# Altium footprint library SnapEDApcb.PcbLib: 1 footprints
Each footprint in its own frame and in the unit in brackets; x right, y up, seen from the top. Pads: shape width x height; smd on the part's side, far side on the other; paste and mask are expansions set on the pad; w line width, h text height; cw(c..) or ccw(c..) is an arc to the next point about the centre after c.
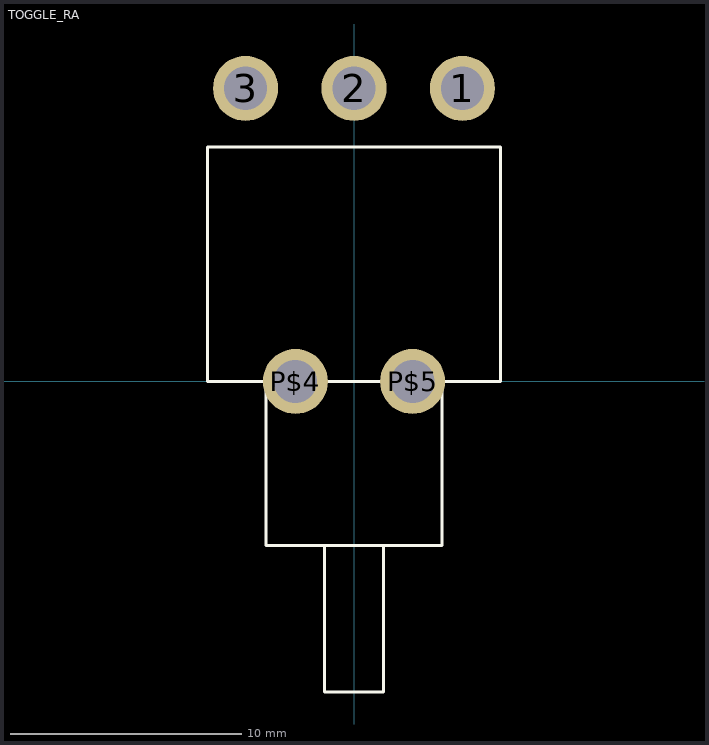
[diagram p0: the footprint, top view; thin cyan lines are the x and y axes]

## TOGGLE_RA [mil]
pads (5):
  round 111 hole 74: 1(185,500) 2(0,500) 3(-185,500) P$4(-100,0) P$5(100,0)
Top Overlay:
  lines w5: -150,0 -250,0 -250,400 250,400 250,0 150,0 ; -150,0 150,0 ; -150,0 -150,-280 -50,-280 ; -50,-280 50,-280 ; -50,-280 -50,-530 50,-530 50,-280 ; 50,-280 150,-280 150,0